# Altium footprint library Mos_ROHM_EM6K6T2R_N_300mA.PcbLib: 1 footprints
Each footprint in its own frame and in the unit in brackets; x right, y up, seen from the top. Pads: shape width x height; smd on the part's side, far side on the other; paste and mask are expansions set on the pad; w line width, h text height; cw(c..) or ccw(c..) is an arc to the next point about the centre after c.
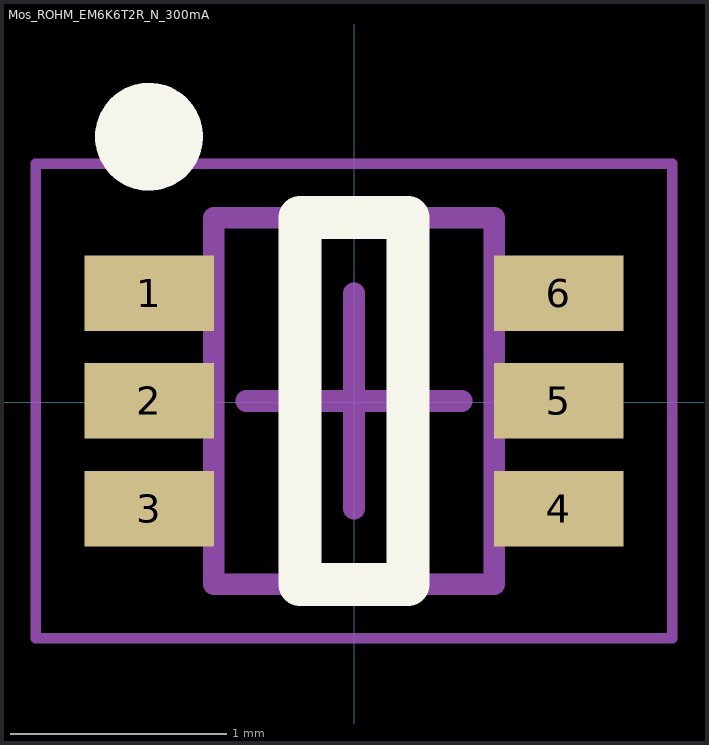
[diagram p0: the footprint, top view; thin cyan lines are the x and y axes]

## Mos_ROHM_EM6K6T2R_N_300mA [mm] "MOSFET Small Signal Dual N-CH 20V .3A .15W"
height 0.55
pads (6):
  rect 0.6x0.35 smd: 1(-0.95,0.505) 2(-0.95,0.005) 3(-0.95,-0.495) 4(0.95,-0.495) 5(0.95,0.005) 6(0.95,0.505)
Top Overlay:
  circle w0.25: c-0.95,1.23 r0.125
  lines w0.2: -0.25,-0.845 -0.25,0.855 0.25,0.855 0.25,-0.845 -0.25,-0.845
Mechanical 13:
  lines w0.1: -0.65,-0.845 0.65,-0.845 0.65,0.855 -0.65,0.855 -0.65,-0.845
Mechanical 15:
  lines w0.05: -1.475,-1.095 1.475,-1.095 1.475,1.105 -1.475,1.105 -1.475,-1.095
  lines w0.1: -0.5,0.005 0.5,0.005 ; 0,-0.495 0,0.505
3D body "SOT50P160X55-6N.step": height 0.55, standoff 0, extent -0.95,-0.845 0.95,0.855